# Altium footprint library HARTING Footprints.PcbLib: 317 footprints (part 14 of 20)
Each footprint in its own frame and in the unit in brackets; x right, y up, seen from the top. Pads: shape width x height; smd on the part's side, far side on the other; paste and mask are expansions set on the pad; w line width, h text height; cw(c..) or ccw(c..) is an arc to the next point about the centre after c.
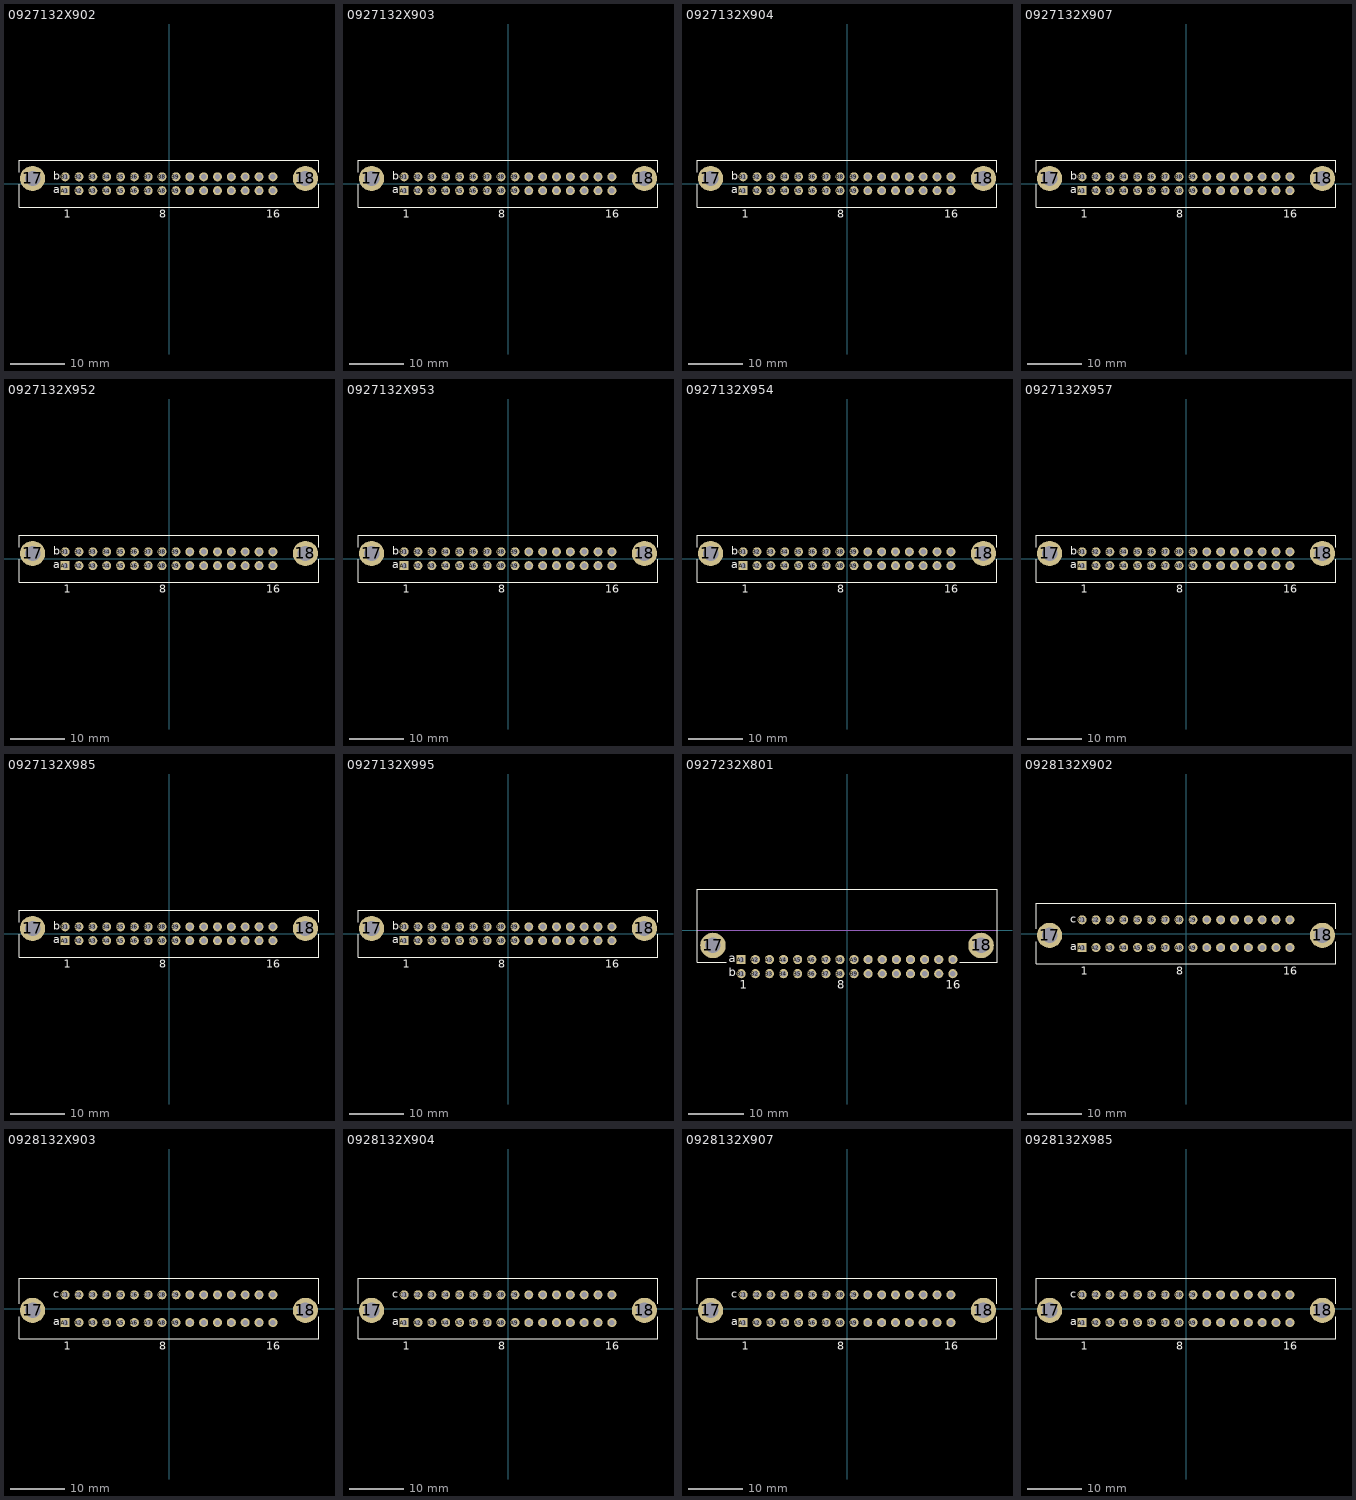
[diagram p13: the footprints below, top view; thin cyan lines are the x and y axes]

## 0927132X902 [mm] "Connector; DIN 41612, Type 2Q, Thru-Hole; Rows a+b, 32 Position; Vertical"
height 11.6
pads (34):
  round 4.6 hole 2.8: 17(-25,0.97) 18(25,0.97)
  rect 1.65x1.65 hole 1: A1(-19.05,-1.27)
  round 1.65 hole 1: A2(-16.51,-1.27) A3(-13.97,-1.27) A4(-11.43,-1.27) A5(-8.89,-1.27) A6(-6.35,-1.27) A7(-3.81,-1.27) A8(-1.27,-1.27) A9(1.27,-1.27) A10(3.81,-1.27) A11(6.35,-1.27) A12(8.89,-1.27) A13(11.43,-1.27) A14(13.97,-1.27) A15(16.51,-1.27) A16(19.05,-1.27) B1(-19.05,1.27) B2(-16.51,1.27) B3(-13.97,1.27) B4(-11.43,1.27) B5(-8.89,1.27) B6(-6.35,1.27) B7(-3.81,1.27) B8(-1.27,1.27) B9(1.27,1.27) B10(3.81,1.27) B11(6.35,1.27) B12(8.89,1.27) B13(11.43,1.27) B14(13.97,1.27) B15(16.51,1.27) B16(19.05,1.27)
Top Overlay:
  lines w0.2: -27.5,-0.13 -27.5,-4.3 27.5,-4.3 27.5,-0.13 ; -27.5,2.07 -27.5,4.3 27.5,4.3 27.5,2.07
  text "16" at 17.8,-6.23 h1.5
  text "8" at -1.77,-6.23 h1.5
  text "b" at -21.26,0.77 h1.5
  text "a" at -21.26,-1.77 h1.5
  text "1" at -19.3,-6.23 h1.5

## 0927132X903 [mm] "Connector; DIN 41612, Type 2Q, Thru-Hole; Rows a+b, 32 Position; Vertical"
height 11.6
pads (34):
  round 4.6 hole 2.8: 17(-25,0.97) 18(25,0.97)
  rect 1.65x1.65 hole 1: A1(-19.05,-1.27)
  round 1.65 hole 1: A2(-16.51,-1.27) A3(-13.97,-1.27) A4(-11.43,-1.27) A5(-8.89,-1.27) A6(-6.35,-1.27) A7(-3.81,-1.27) A8(-1.27,-1.27) A9(1.27,-1.27) A10(3.81,-1.27) A11(6.35,-1.27) A12(8.89,-1.27) A13(11.43,-1.27) A14(13.97,-1.27) A15(16.51,-1.27) A16(19.05,-1.27) B1(-19.05,1.27) B2(-16.51,1.27) B3(-13.97,1.27) B4(-11.43,1.27) B5(-8.89,1.27) B6(-6.35,1.27) B7(-3.81,1.27) B8(-1.27,1.27) B9(1.27,1.27) B10(3.81,1.27) B11(6.35,1.27) B12(8.89,1.27) B13(11.43,1.27) B14(13.97,1.27) B15(16.51,1.27) B16(19.05,1.27)
Top Overlay:
  lines w0.2: -27.5,-0.13 -27.5,-4.3 27.5,-4.3 27.5,-0.13 ; -27.5,2.07 -27.5,4.3 27.5,4.3 27.5,2.07
  text "16" at 17.8,-6.23 h1.5
  text "8" at -1.77,-6.23 h1.5
  text "b" at -21.26,0.77 h1.5
  text "a" at -21.26,-1.77 h1.5
  text "1" at -19.3,-6.23 h1.5

## 0927132X904 [mm] "Connector; DIN 41612, Type 2Q, Thru-Hole; Rows a+b, 32 Position; Vertical"
height 11.6
pads (34):
  round 4.6 hole 2.8: 17(-25,0.97) 18(25,0.97)
  rect 1.65x1.65 hole 1: A1(-19.05,-1.27)
  round 1.65 hole 1: A2(-16.51,-1.27) A3(-13.97,-1.27) A4(-11.43,-1.27) A5(-8.89,-1.27) A6(-6.35,-1.27) A7(-3.81,-1.27) A8(-1.27,-1.27) A9(1.27,-1.27) A10(3.81,-1.27) A11(6.35,-1.27) A12(8.89,-1.27) A13(11.43,-1.27) A14(13.97,-1.27) A15(16.51,-1.27) A16(19.05,-1.27) B1(-19.05,1.27) B2(-16.51,1.27) B3(-13.97,1.27) B4(-11.43,1.27) B5(-8.89,1.27) B6(-6.35,1.27) B7(-3.81,1.27) B8(-1.27,1.27) B9(1.27,1.27) B10(3.81,1.27) B11(6.35,1.27) B12(8.89,1.27) B13(11.43,1.27) B14(13.97,1.27) B15(16.51,1.27) B16(19.05,1.27)
Top Overlay:
  lines w0.2: -27.5,-0.13 -27.5,-4.3 27.5,-4.3 27.5,-0.13 ; -27.5,2.07 -27.5,4.3 27.5,4.3 27.5,2.07
  text "16" at 17.8,-6.23 h1.5
  text "8" at -1.77,-6.23 h1.5
  text "b" at -21.26,0.77 h1.5
  text "a" at -21.26,-1.77 h1.5
  text "1" at -19.3,-6.23 h1.5

## 0927132X907 [mm] "Connector; DIN 41612, Type 2Q, Thru-Hole; Rows a+b, 32 Position; Vertical"
height 11.6
pads (34):
  round 4.6 hole 2.8: 17(-25,0.97) 18(25,0.97)
  rect 1.65x1.65 hole 1: A1(-19.05,-1.27)
  round 1.65 hole 1: A2(-16.51,-1.27) A3(-13.97,-1.27) A4(-11.43,-1.27) A5(-8.89,-1.27) A6(-6.35,-1.27) A7(-3.81,-1.27) A8(-1.27,-1.27) A9(1.27,-1.27) A10(3.81,-1.27) A11(6.35,-1.27) A12(8.89,-1.27) A13(11.43,-1.27) A14(13.97,-1.27) A15(16.51,-1.27) A16(19.05,-1.27) B1(-19.05,1.27) B2(-16.51,1.27) B3(-13.97,1.27) B4(-11.43,1.27) B5(-8.89,1.27) B6(-6.35,1.27) B7(-3.81,1.27) B8(-1.27,1.27) B9(1.27,1.27) B10(3.81,1.27) B11(6.35,1.27) B12(8.89,1.27) B13(11.43,1.27) B14(13.97,1.27) B15(16.51,1.27) B16(19.05,1.27)
Top Overlay:
  lines w0.2: -27.5,-0.13 -27.5,-4.3 27.5,-4.3 27.5,-0.13 ; -27.5,2.07 -27.5,4.3 27.5,4.3 27.5,2.07
  text "16" at 17.8,-6.23 h1.5
  text "8" at -1.77,-6.23 h1.5
  text "b" at -21.26,0.77 h1.5
  text "a" at -21.26,-1.77 h1.5
  text "1" at -19.3,-6.23 h1.5

## 0927132X952 [mm] "Connector; DIN 41612, Type 2Q, Thru-Hole; Rows a+b, 32 Position; Vertical"
height 11.6
pads (34):
  round 4.6 hole 2.8: 17(-25,0.97) 18(25,0.97)
  rect 1.65x1.65 hole 1: A1(-19.05,-1.27)
  round 1.65 hole 1: A2(-16.51,-1.27) A3(-13.97,-1.27) A4(-11.43,-1.27) A5(-8.89,-1.27) A6(-6.35,-1.27) A7(-3.81,-1.27) A8(-1.27,-1.27) A9(1.27,-1.27) A10(3.81,-1.27) A11(6.35,-1.27) A12(8.89,-1.27) A13(11.43,-1.27) A14(13.97,-1.27) A15(16.51,-1.27) A16(19.05,-1.27) B1(-19.05,1.27) B2(-16.51,1.27) B3(-13.97,1.27) B4(-11.43,1.27) B5(-8.89,1.27) B6(-6.35,1.27) B7(-3.81,1.27) B8(-1.27,1.27) B9(1.27,1.27) B10(3.81,1.27) B11(6.35,1.27) B12(8.89,1.27) B13(11.43,1.27) B14(13.97,1.27) B15(16.51,1.27) B16(19.05,1.27)
Top Overlay:
  lines w0.2: -27.5,-0.13 -27.5,-4.3 27.5,-4.3 27.5,-0.13 ; -27.5,2.07 -27.5,4.3 27.5,4.3 27.5,2.07
  text "16" at 17.8,-6.23 h1.5
  text "8" at -1.77,-6.23 h1.5
  text "b" at -21.26,0.77 h1.5
  text "a" at -21.26,-1.77 h1.5
  text "1" at -19.3,-6.23 h1.5

## 0927132X953 [mm] "Connector; DIN 41612, Type 2Q, Thru-Hole; Rows a+b, 32 Position; Vertical"
height 11.6
pads (34):
  round 4.6 hole 2.8: 17(-25,0.97) 18(25,0.97)
  rect 1.65x1.65 hole 1: A1(-19.05,-1.27)
  round 1.65 hole 1: A2(-16.51,-1.27) A3(-13.97,-1.27) A4(-11.43,-1.27) A5(-8.89,-1.27) A6(-6.35,-1.27) A7(-3.81,-1.27) A8(-1.27,-1.27) A9(1.27,-1.27) A10(3.81,-1.27) A11(6.35,-1.27) A12(8.89,-1.27) A13(11.43,-1.27) A14(13.97,-1.27) A15(16.51,-1.27) A16(19.05,-1.27) B1(-19.05,1.27) B2(-16.51,1.27) B3(-13.97,1.27) B4(-11.43,1.27) B5(-8.89,1.27) B6(-6.35,1.27) B7(-3.81,1.27) B8(-1.27,1.27) B9(1.27,1.27) B10(3.81,1.27) B11(6.35,1.27) B12(8.89,1.27) B13(11.43,1.27) B14(13.97,1.27) B15(16.51,1.27) B16(19.05,1.27)
Top Overlay:
  lines w0.2: -27.5,-0.13 -27.5,-4.3 27.5,-4.3 27.5,-0.13 ; -27.5,2.07 -27.5,4.3 27.5,4.3 27.5,2.07
  text "16" at 17.8,-6.23 h1.5
  text "8" at -1.77,-6.23 h1.5
  text "b" at -21.26,0.77 h1.5
  text "a" at -21.26,-1.77 h1.5
  text "1" at -19.3,-6.23 h1.5

## 0927132X954 [mm] "Connector; DIN 41612, Type 2Q, Thru-Hole; Rows a+b, 32 Position; Vertical"
height 11.6
pads (34):
  round 4.6 hole 2.8: 17(-25,0.97) 18(25,0.97)
  rect 1.65x1.65 hole 1: A1(-19.05,-1.27)
  round 1.65 hole 1: A2(-16.51,-1.27) A3(-13.97,-1.27) A4(-11.43,-1.27) A5(-8.89,-1.27) A6(-6.35,-1.27) A7(-3.81,-1.27) A8(-1.27,-1.27) A9(1.27,-1.27) A10(3.81,-1.27) A11(6.35,-1.27) A12(8.89,-1.27) A13(11.43,-1.27) A14(13.97,-1.27) A15(16.51,-1.27) A16(19.05,-1.27) B1(-19.05,1.27) B2(-16.51,1.27) B3(-13.97,1.27) B4(-11.43,1.27) B5(-8.89,1.27) B6(-6.35,1.27) B7(-3.81,1.27) B8(-1.27,1.27) B9(1.27,1.27) B10(3.81,1.27) B11(6.35,1.27) B12(8.89,1.27) B13(11.43,1.27) B14(13.97,1.27) B15(16.51,1.27) B16(19.05,1.27)
Top Overlay:
  lines w0.2: -27.5,-0.13 -27.5,-4.3 27.5,-4.3 27.5,-0.13 ; -27.5,2.07 -27.5,4.3 27.5,4.3 27.5,2.07
  text "16" at 17.8,-6.23 h1.5
  text "8" at -1.77,-6.23 h1.5
  text "b" at -21.26,0.77 h1.5
  text "a" at -21.26,-1.77 h1.5
  text "1" at -19.3,-6.23 h1.5

## 0927132X957 [mm] "Connector; DIN 41612, Type 2Q, Thru-Hole; Rows a+b, 32 Position; Vertical"
height 11.6
pads (34):
  round 4.6 hole 2.8: 17(-25,0.97) 18(25,0.97)
  rect 1.65x1.65 hole 1: A1(-19.05,-1.27)
  round 1.65 hole 1: A2(-16.51,-1.27) A3(-13.97,-1.27) A4(-11.43,-1.27) A5(-8.89,-1.27) A6(-6.35,-1.27) A7(-3.81,-1.27) A8(-1.27,-1.27) A9(1.27,-1.27) A10(3.81,-1.27) A11(6.35,-1.27) A12(8.89,-1.27) A13(11.43,-1.27) A14(13.97,-1.27) A15(16.51,-1.27) A16(19.05,-1.27) B1(-19.05,1.27) B2(-16.51,1.27) B3(-13.97,1.27) B4(-11.43,1.27) B5(-8.89,1.27) B6(-6.35,1.27) B7(-3.81,1.27) B8(-1.27,1.27) B9(1.27,1.27) B10(3.81,1.27) B11(6.35,1.27) B12(8.89,1.27) B13(11.43,1.27) B14(13.97,1.27) B15(16.51,1.27) B16(19.05,1.27)
Top Overlay:
  lines w0.2: -27.5,-0.13 -27.5,-4.3 27.5,-4.3 27.5,-0.13 ; -27.5,2.07 -27.5,4.3 27.5,4.3 27.5,2.07
  text "16" at 17.8,-6.23 h1.5
  text "8" at -1.77,-6.23 h1.5
  text "b" at -21.26,0.77 h1.5
  text "a" at -21.26,-1.77 h1.5
  text "1" at -19.3,-6.23 h1.5

## 0927132X985 [mm] "Connector; DIN 41612, Type 2Q, Thru-Hole; Rows a+b, 32 Position; Vertical"
height 11.6
pads (34):
  round 4.6 hole 2.8: 17(-25,0.97) 18(25,0.97)
  rect 1.65x1.65 hole 1: A1(-19.05,-1.27)
  round 1.65 hole 1: A2(-16.51,-1.27) A3(-13.97,-1.27) A4(-11.43,-1.27) A5(-8.89,-1.27) A6(-6.35,-1.27) A7(-3.81,-1.27) A8(-1.27,-1.27) A9(1.27,-1.27) A10(3.81,-1.27) A11(6.35,-1.27) A12(8.89,-1.27) A13(11.43,-1.27) A14(13.97,-1.27) A15(16.51,-1.27) A16(19.05,-1.27) B1(-19.05,1.27) B2(-16.51,1.27) B3(-13.97,1.27) B4(-11.43,1.27) B5(-8.89,1.27) B6(-6.35,1.27) B7(-3.81,1.27) B8(-1.27,1.27) B9(1.27,1.27) B10(3.81,1.27) B11(6.35,1.27) B12(8.89,1.27) B13(11.43,1.27) B14(13.97,1.27) B15(16.51,1.27) B16(19.05,1.27)
Top Overlay:
  lines w0.2: -27.5,-0.13 -27.5,-4.3 27.5,-4.3 27.5,-0.13 ; -27.5,2.07 -27.5,4.3 27.5,4.3 27.5,2.07
  text "16" at 17.8,-6.23 h1.5
  text "8" at -1.77,-6.23 h1.5
  text "b" at -21.26,0.77 h1.5
  text "a" at -21.26,-1.77 h1.5
  text "1" at -19.3,-6.23 h1.5

## 0927132X995 [mm] "Connector; DIN 41612, Type 2Q, Thru-Hole; Rows a+b, 32 Position; Vertical"
height 11.6
pads (34):
  round 4.6 hole 2.8: 17(-25,0.97) 18(25,0.97)
  rect 1.65x1.65 hole 1: A1(-19.05,-1.27)
  round 1.65 hole 1: A2(-16.51,-1.27) A3(-13.97,-1.27) A4(-11.43,-1.27) A5(-8.89,-1.27) A6(-6.35,-1.27) A7(-3.81,-1.27) A8(-1.27,-1.27) A9(1.27,-1.27) A10(3.81,-1.27) A11(6.35,-1.27) A12(8.89,-1.27) A13(11.43,-1.27) A14(13.97,-1.27) A15(16.51,-1.27) A16(19.05,-1.27) B1(-19.05,1.27) B2(-16.51,1.27) B3(-13.97,1.27) B4(-11.43,1.27) B5(-8.89,1.27) B6(-6.35,1.27) B7(-3.81,1.27) B8(-1.27,1.27) B9(1.27,1.27) B10(3.81,1.27) B11(6.35,1.27) B12(8.89,1.27) B13(11.43,1.27) B14(13.97,1.27) B15(16.51,1.27) B16(19.05,1.27)
Top Overlay:
  lines w0.2: -27.5,-0.13 -27.5,-4.3 27.5,-4.3 27.5,-0.13 ; -27.5,2.07 -27.5,4.3 27.5,4.3 27.5,2.07
  text "16" at 17.8,-6.23 h1.5
  text "8" at -1.77,-6.23 h1.5
  text "b" at -21.26,0.77 h1.5
  text "a" at -21.26,-1.77 h1.5
  text "1" at -19.3,-6.23 h1.5

## 0927232X801 [mm] "Connector; DIN 41612, Type Q, Thru-Hole; Rows a+b, 32 Position; Right Angle"
height 8.6
pads (34):
  round 4.6 hole 2.8: 17(-24.13,-2.76) 18(24.13,-2.76)
  rect 1.65x1.65 hole 1: A1(-19.05,-5.3)
  round 1.65 hole 1: A2(-16.51,-5.3) A3(-13.97,-5.3) A4(-11.43,-5.3) A5(-8.89,-5.3) A6(-6.35,-5.3) A7(-3.81,-5.3) A8(-1.27,-5.3) A9(1.27,-5.3) A10(3.81,-5.3) A11(6.35,-5.3) A12(8.89,-5.3) A13(11.43,-5.3) A14(13.97,-5.3) A15(16.51,-5.3) A16(19.05,-5.3) B1(-19.05,-7.84) B2(-16.51,-7.84) B3(-13.97,-7.84) B4(-11.43,-7.84) B5(-8.89,-7.84) B6(-6.35,-7.84) B7(-3.81,-7.84) B8(-1.27,-7.84) B9(1.27,-7.84) B10(3.81,-7.84) B11(6.35,-7.84) B12(8.89,-7.84) B13(11.43,-7.84) B14(13.97,-7.84) B15(16.51,-7.84) B16(19.05,-7.84)
Top Overlay:
  lines w0.2: -21.75,-5.8 -27,-5.8 -27,7.34 27,7.34 27,-5.8 20.275,-5.8
  text "1" at -19.3,-10.54 h1.5
  text "a" at -21.26,-5.8 h1.5
  text "b" at -21.26,-8.34 h1.5
  text "8" at -1.77,-10.54 h1.5
  text "16" at 17.8,-10.54 h1.5
Mechanical 1:
  lines w0.1: -27,0 27,0
  text "PCB Edge" at -26.15,0.5 h0.6

## 0928132X902 [mm] "Connector; DIN 41612, Type 2R, Thru-Hole; Rows a+c, 32 Position; Vertical"
height 11.6
pads (34):
  round 4.6 hole 2.8: 17(-25,-0.3) 18(25,-0.3)
  rect 1.65x1.65 hole 1: A1(-19.05,-2.54)
  round 1.65 hole 1: A2(-16.51,-2.54) A3(-13.97,-2.54) A4(-11.43,-2.54) A5(-8.89,-2.54) A6(-6.35,-2.54) A7(-3.81,-2.54) A8(-1.27,-2.54) A9(1.27,-2.54) A10(3.81,-2.54) A11(6.35,-2.54) A12(8.89,-2.54) A13(11.43,-2.54) A14(13.97,-2.54) A15(16.51,-2.54) A16(19.05,-2.54) C1(-19.05,2.54) C2(-16.51,2.54) C3(-13.97,2.54) C4(-11.43,2.54) C5(-8.89,2.54) C6(-6.35,2.54) C7(-3.81,2.54) C8(-1.27,2.54) C9(1.27,2.54) C10(3.81,2.54) C11(6.35,2.54) C12(8.89,2.54) C13(11.43,2.54) C14(13.97,2.54) C15(16.51,2.54) C16(19.05,2.54)
Top Overlay:
  lines w0.2: -27.5,-1.5 -27.5,-5.55 27.5,-5.55 27.5,-1.5 ; -27.5,0.9 -27.5,5.55 27.5,5.55 27.5,0.9
  text "16" at 17.8,-7.5 h1.5
  text "8" at -1.77,-7.5 h1.5
  text "c" at -21.26,2.04 h1.5
  text "a" at -21.26,-3.04 h1.5
  text "1" at -19.3,-7.5 h1.5

## 0928132X903 [mm] "Connector; DIN 41612, Type 2R, Thru-Hole; Rows a+c, 32 Position; Vertical"
height 11.6
pads (34):
  round 4.6 hole 2.8: 17(-25,-0.3) 18(25,-0.3)
  rect 1.65x1.65 hole 1: A1(-19.05,-2.54)
  round 1.65 hole 1: A2(-16.51,-2.54) A3(-13.97,-2.54) A4(-11.43,-2.54) A5(-8.89,-2.54) A6(-6.35,-2.54) A7(-3.81,-2.54) A8(-1.27,-2.54) A9(1.27,-2.54) A10(3.81,-2.54) A11(6.35,-2.54) A12(8.89,-2.54) A13(11.43,-2.54) A14(13.97,-2.54) A15(16.51,-2.54) A16(19.05,-2.54) C1(-19.05,2.54) C2(-16.51,2.54) C3(-13.97,2.54) C4(-11.43,2.54) C5(-8.89,2.54) C6(-6.35,2.54) C7(-3.81,2.54) C8(-1.27,2.54) C9(1.27,2.54) C10(3.81,2.54) C11(6.35,2.54) C12(8.89,2.54) C13(11.43,2.54) C14(13.97,2.54) C15(16.51,2.54) C16(19.05,2.54)
Top Overlay:
  lines w0.2: -27.5,-1.5 -27.5,-5.55 27.5,-5.55 27.5,-1.5 ; -27.5,0.9 -27.5,5.55 27.5,5.55 27.5,0.9
  text "16" at 17.8,-7.5 h1.5
  text "8" at -1.77,-7.5 h1.5
  text "c" at -21.26,2.04 h1.5
  text "a" at -21.26,-3.04 h1.5
  text "1" at -19.3,-7.5 h1.5

## 0928132X904 [mm] "Connector; DIN 41612, Type 2R, Thru-Hole; Rows a+c, 32 Position; Vertical"
height 11.6
pads (34):
  round 4.6 hole 2.8: 17(-25,-0.3) 18(25,-0.3)
  rect 1.65x1.65 hole 1: A1(-19.05,-2.54)
  round 1.65 hole 1: A2(-16.51,-2.54) A3(-13.97,-2.54) A4(-11.43,-2.54) A5(-8.89,-2.54) A6(-6.35,-2.54) A7(-3.81,-2.54) A8(-1.27,-2.54) A9(1.27,-2.54) A10(3.81,-2.54) A11(6.35,-2.54) A12(8.89,-2.54) A13(11.43,-2.54) A14(13.97,-2.54) A15(16.51,-2.54) A16(19.05,-2.54) C1(-19.05,2.54) C2(-16.51,2.54) C3(-13.97,2.54) C4(-11.43,2.54) C5(-8.89,2.54) C6(-6.35,2.54) C7(-3.81,2.54) C8(-1.27,2.54) C9(1.27,2.54) C10(3.81,2.54) C11(6.35,2.54) C12(8.89,2.54) C13(11.43,2.54) C14(13.97,2.54) C15(16.51,2.54) C16(19.05,2.54)
Top Overlay:
  lines w0.2: -27.5,-1.5 -27.5,-5.55 27.5,-5.55 27.5,-1.5 ; -27.5,0.9 -27.5,5.55 27.5,5.55 27.5,0.9
  text "16" at 17.8,-7.5 h1.5
  text "8" at -1.77,-7.5 h1.5
  text "c" at -21.26,2.04 h1.5
  text "a" at -21.26,-3.04 h1.5
  text "1" at -19.3,-7.5 h1.5

## 0928132X907 [mm] "Connector; DIN 41612, Type 2R, Thru-Hole; Rows a+c, 32 Position; Vertical"
height 11.6
pads (34):
  round 4.6 hole 2.8: 17(-25,-0.3) 18(25,-0.3)
  rect 1.65x1.65 hole 1: A1(-19.05,-2.54)
  round 1.65 hole 1: A2(-16.51,-2.54) A3(-13.97,-2.54) A4(-11.43,-2.54) A5(-8.89,-2.54) A6(-6.35,-2.54) A7(-3.81,-2.54) A8(-1.27,-2.54) A9(1.27,-2.54) A10(3.81,-2.54) A11(6.35,-2.54) A12(8.89,-2.54) A13(11.43,-2.54) A14(13.97,-2.54) A15(16.51,-2.54) A16(19.05,-2.54) C1(-19.05,2.54) C2(-16.51,2.54) C3(-13.97,2.54) C4(-11.43,2.54) C5(-8.89,2.54) C6(-6.35,2.54) C7(-3.81,2.54) C8(-1.27,2.54) C9(1.27,2.54) C10(3.81,2.54) C11(6.35,2.54) C12(8.89,2.54) C13(11.43,2.54) C14(13.97,2.54) C15(16.51,2.54) C16(19.05,2.54)
Top Overlay:
  lines w0.2: -27.5,-1.5 -27.5,-5.55 27.5,-5.55 27.5,-1.5 ; -27.5,0.9 -27.5,5.55 27.5,5.55 27.5,0.9
  text "16" at 17.8,-7.5 h1.5
  text "8" at -1.77,-7.5 h1.5
  text "c" at -21.26,2.04 h1.5
  text "a" at -21.26,-3.04 h1.5
  text "1" at -19.3,-7.5 h1.5

## 0928132X985 [mm] "Connector; DIN 41612, Type 2R, Thru-Hole; Rows a+c, 32 Position; Vertical"
height 11.6
pads (34):
  round 4.6 hole 2.8: 17(-25,-0.3) 18(25,-0.3)
  rect 1.65x1.65 hole 1: A1(-19.05,-2.54)
  round 1.65 hole 1: A2(-16.51,-2.54) A3(-13.97,-2.54) A4(-11.43,-2.54) A5(-8.89,-2.54) A6(-6.35,-2.54) A7(-3.81,-2.54) A8(-1.27,-2.54) A9(1.27,-2.54) A10(3.81,-2.54) A11(6.35,-2.54) A12(8.89,-2.54) A13(11.43,-2.54) A14(13.97,-2.54) A15(16.51,-2.54) A16(19.05,-2.54) C1(-19.05,2.54) C2(-16.51,2.54) C3(-13.97,2.54) C4(-11.43,2.54) C5(-8.89,2.54) C6(-6.35,2.54) C7(-3.81,2.54) C8(-1.27,2.54) C9(1.27,2.54) C10(3.81,2.54) C11(6.35,2.54) C12(8.89,2.54) C13(11.43,2.54) C14(13.97,2.54) C15(16.51,2.54) C16(19.05,2.54)
Top Overlay:
  lines w0.2: -27.5,-1.5 -27.5,-5.55 27.5,-5.55 27.5,-1.5 ; -27.5,0.9 -27.5,5.55 27.5,5.55 27.5,0.9
  text "16" at 17.8,-7.5 h1.5
  text "8" at -1.77,-7.5 h1.5
  text "c" at -21.26,2.04 h1.5
  text "a" at -21.26,-3.04 h1.5
  text "1" at -19.3,-7.5 h1.5